# Altium schematic symbol library 2N7002DW.SchLib: 1 symbol
Pins are listed as number, name and electrical type; pins without a type are passive.

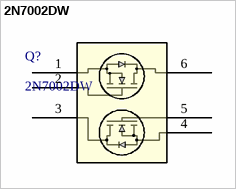
[diagram p0: symbol 2N7002DW]

## 2N7002DW
designator Q?
Description; Manufacturer_Name: onsemi; Copyright: Copyright (C) 2026 Ultra Librarian. All rights reserved.; Manufacturer_Part_Number: 2N7002DW; RefDes: RefDes; Type: Type
footprint SC-88SC70-6SOT-363_419B-02_ONS_OSI
pins: 1, 2, 3, 4, 5, 6